# EAGLE library part 4455H (library hopf)
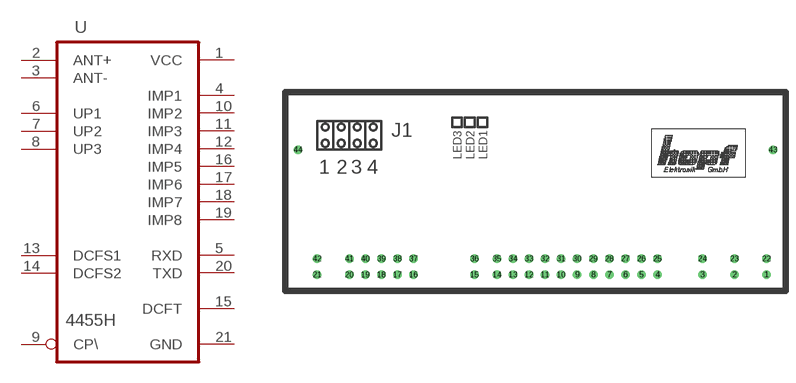
[diagram p0: symbol with the pads of 4455; footprint 4455]

Designator prefix -

## 4455H  [4455]
1  VCC  pwr
2  ANT+  in
3  ANT-  in
4  IMP1  out
5  RXD
6  UP1
7  UP2
8  UP3
9  CP\  in
10  IMP2  out
11  IMP3  out
12  IMP4  out
13  DCFS1  out
14  DCFS2  out
15  DCFT  out
16  IMP5  out
17  IMP6  out
18  IMP7  out
19  IMP8  out
20  TXD
21  GND  pwr

## Footprint 4455 (pad centres in mm)
drill 0.813 round: 1 75,2.5; 2 70,2.5; 3 65,2.5; 4 58,2.5; 5 55.5,2.5; 6 53,2.5; 7 50.5,2.5; 8 48,2.5; 9 45.5,2.5; 10 43,2.5; 11 40.5,2.5; 12 38,2.5; 13 35.5,2.5; 14 33,2.5; 15 29.5,2.5; 16 20,2.5; 17 17.5,2.5; 18 15,2.5; 19 12.5,2.5; 20 10,2.5; 21 5,2.5; 22 75,5; 23 70,5; 24 65,5; 25 58,5; 26 55.5,5; 27 53,5; 28 50.5,5; 29 48,5; 30 45.5,5; 31 43,5; 32 40.5,5; 33 38,5; 34 35.5,5; 35 33,5; 36 29.5,5; 37 20,5; 38 17.5,5; 39 15,5; 40 12.5,5; 41 10,5; 42 5,5; 43 76,22; 44 2,22